# Altium footprint library MSS-22D18.PcbLib: 1 footprints
Each footprint in its own frame and in the unit in brackets; x right, y up, seen from the top. Pads: shape width x height; smd on the part's side, far side on the other; paste and mask are expansions set on the pad; w line width, h text height; cw(c..) or ccw(c..) is an arc to the next point about the centre after c.
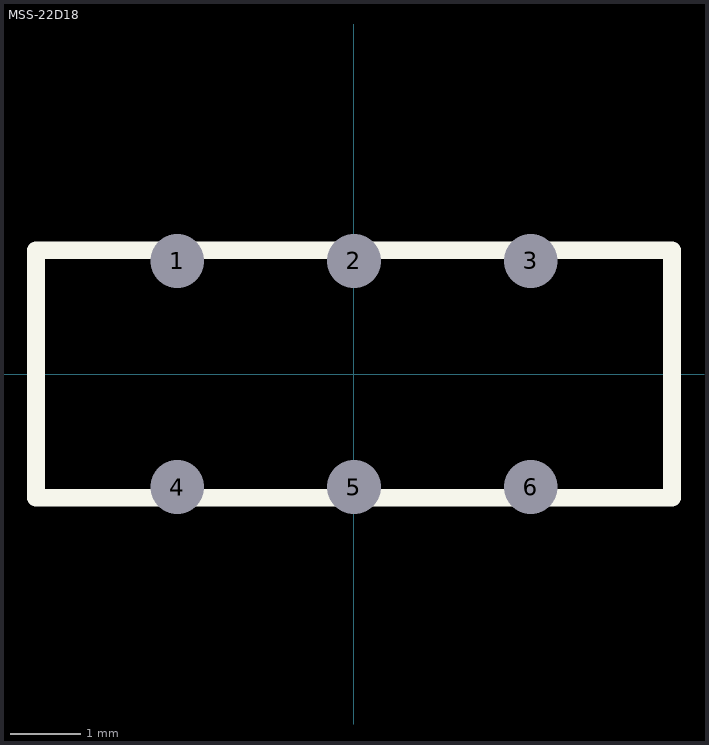
[diagram p0: the footprint, top view; thin cyan lines are the x and y axes]

## MSS-22D18 [mil] "switch"
pads (6):
  round 17 hole 30: 1(-98.43,62.99) 2(0,62.99) 3(98.43,62.99) 4(-98.43,-62.99) 5(0,-62.99) 6(98.43,-62.99)
Top Overlay:
  lines w10: -177.17,-68.9 -177.17,68.9 177.17,68.9 177.17,-68.9 -177.17,-68.9